# EAGLE library part STM8L051F3 (library FreeHands_master_lib)
IC MCU 8BIT 8KB FLASH 20TSSOP
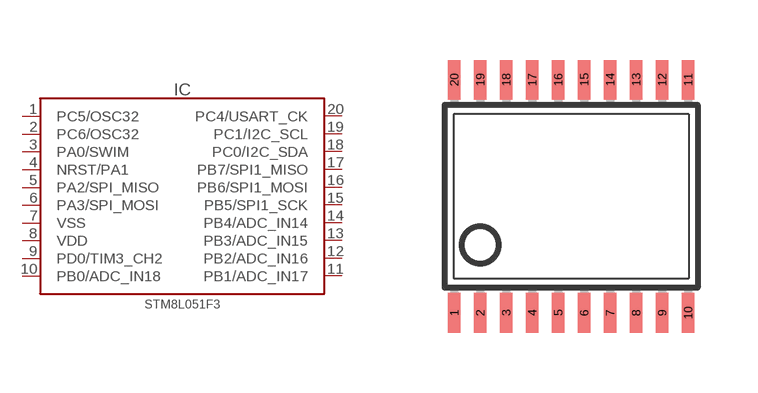
[diagram p1: symbol with the pads of TSSOP20; footprint TSSOP20]

Designator prefix IC

## STM8L051F3 (COMPEL: http://www.compel.ru/infosheet/ST/STM8L051F3P6; DIGIKEY#: 497-13042-5-ND; MANF: STMicroelectronics; MANF#: STM8L051F3P6)  [TSSOP20]
1  PC5/OSC32
2  PC6/OSC32
3  PA0/SWIM
4  NRST/PA1
5  PA2/SPI_MISO
6  PA3/SPI_MOSI
7  VSS
8  VDD
9  PD0/TIM3_CH2
10  PB0/ADC_IN18
11  PB1/ADC_IN17
12  PB2/ADC_IN16
13  PB3/ADC_IN15
14  PB4/ADC_IN14
15  PB5/SPI1_SCK
16  PB6/SPI1_MOSI
17  PB7/SPI1_MISO
18  PC0/I2C_SDA
19  PC1/I2C_SCL
20  PC4/USART_CK

## Footprint TSSOP20 (pad centres in mm)
Thin Shrink Small Outline Plastic 20 MAX3223-MAX3243.pdf
smd 0.305 x 0.991: 1 -2.925,-2.918; 2 -2.275,-2.918; 3 -1.625,-2.918; 4 -0.975,-2.918; 5 -0.325,-2.918; 6 0.325,-2.918; 7 0.975,-2.918; 8 1.625,-2.918; 9 2.275,-2.918; 10 2.925,-2.918; 11 2.925,2.918; 12 2.275,2.918; 13 1.625,2.918; 14 0.975,2.918; 15 0.325,2.918; 16 -0.325,2.918; 17 -0.975,2.918; 18 -1.625,2.918; 19 -2.275,2.918; 20 -2.925,2.918